# EAGLE library part TPS73733_DRV_6 (library ek-tm4c129exl)
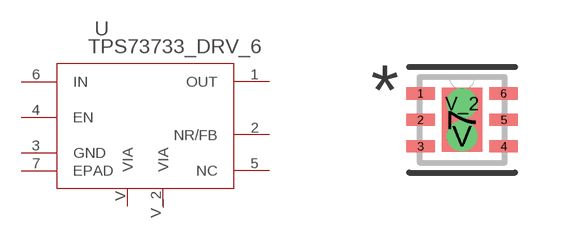
[diagram p10: symbol with the pads of DRV6_1P6X1; footprint DRV6_1P6X1]

Designator prefix -

## TPS73733_DRV_6  [DRV6_1P6X1]
1  OUT  out
2  NR/FB
3  GND  pwr
4  EN  pas
5  NC  pas
6  IN  in
7  EPAD  pas
V  VIA
V_2  VIA

## Footprint DRV6_1P6X1 (pad centres in mm)
smd 0.711 x 0.305: 1 -1.041,0.66; 2 -1.041,0; 3 -1.041,-0.66; 4 1.041,-0.66; 5 1.041,0; 6 1.041,0.66
smd 1.016 x 1.6: 7 0,0
drill 0.254: V 0,-0.406; V_2 0,0.406